# Altium schematic symbol library TBP01R2W-508-06BE.SchLib: 1 symbol
Pins are listed as number, name and electrical type; pins without a type are passive.

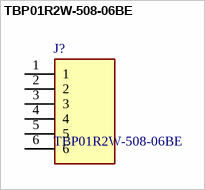
[diagram p0: symbol TBP01R2W-508-06BE]

## TBP01R2W-508-06BE
designator J?
2~24 Poles, Pluggable, Receptacle, Vertical 5.08 Pitch, Terminal Block Connector; Manufacturer_Name: Same Sky; Geometry.Height: 12.4mm; Mouser Part Number: 490-TBP01R2W-50806BE; Mouser Price/Stock: https://www.mouser.co.uk/ProductDetail/Same-Sky/TBP01R2W-508-06BE?qs=PzGy0jfpSMstd7VozfoB7g%3D%3D; Manufacturer_Part_Number: TBP01R2W-508-06BE; Datasheet Link: https://www.sameskydevices.com/product/resource/supplyframepdf/tbp01r2w-508.pdf
footprint SHDR6W100P0X508_1X6_4064X850X1240P
pins: 1, 2, 3, 4, 5, 6